# Altium schematic symbol library GENERIC_C_ELEC.Schlib: 1 symbol
Pins are listed as number, name and electrical type; pins without a type are passive.

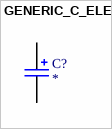
[diagram p0: symbol GENERIC_C_ELEC]

## GENERIC_C_ELEC
designator C?
pins: 1, 2